# EAGLE library part SIL164TG64 (library SII164CTG64)
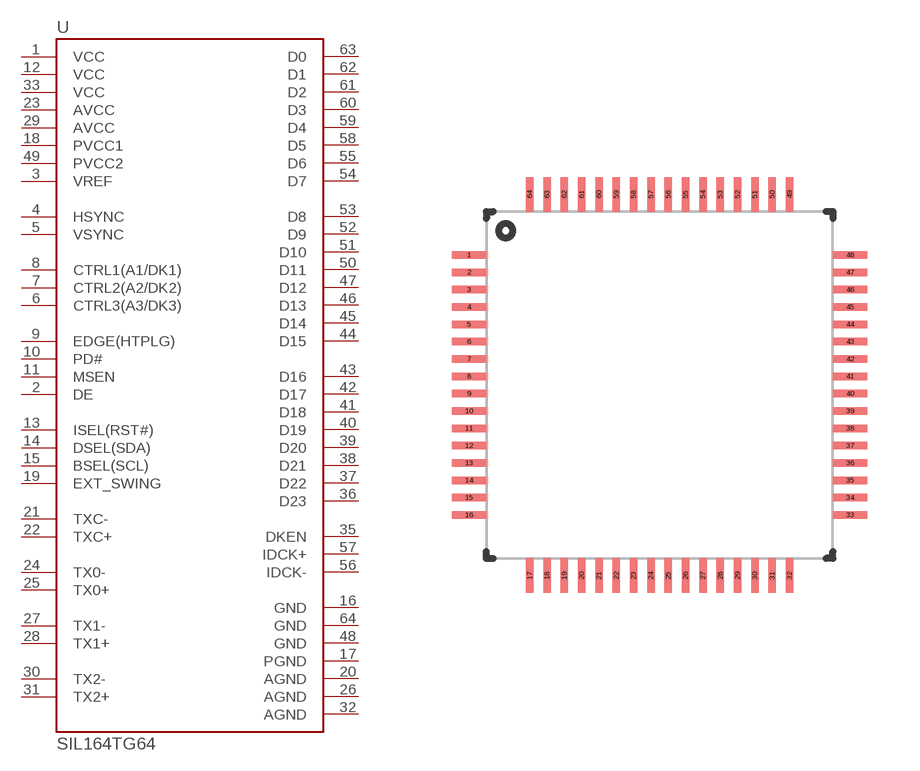
[diagram p0: symbol with the pads of TQFP64; footprint TQFP64]

Designator prefix -

## SIL164TG64  [TQFP64]
1  VCC  pwr
2  DE
3  VREF
4  HSYNC
5  VSYNC
6  CTRL3(A3/DK3)
7  CTRL2(A2/DK2)
8  CTRL1(A1/DK1)
9  EDGE(HTPLG)
10  PD#
11  MSEN
12  VCC
13  ISEL(RST#)
14  DSEL(SDA)
15  BSEL(SCL)
16  GND
17  PGND
18  PVCC1
19  EXT_SWING
20  AGND
21  TXC-
22  TXC+
23  AVCC
24  TX0-
25  TX0+
26  AGND
27  TX1-
28  TX1+
29  AVCC
30  TX2-
31  TX2+
32  AGND
33  VCC
35  DKEN  pwr
36  D23  pwr
37  D22  pwr
38  D21  pwr
39  D20  pwr
40  D19  pwr
41  D18  pwr
42  D17  pwr
43  D16  pwr
44  D15  pwr
45  D14  pwr
46  D13  pwr
47  D12  pwr
48  GND
49  PVCC2
50  D11  pwr
51  D10  pwr
52  D9  pwr
53  D8  pwr
54  D7  pwr
55  D6  pwr
56  IDCK-  pwr
57  IDCK+  pwr
58  D5  pwr
59  D4  pwr
60  D3  pwr
61  D2  pwr
62  D1  pwr
63  D0  pwr
64  GND

## Footprint TQFP64 (pad centres in mm)
smd 1 x 0.22: 1 -5.5,3.75; 2 -5.5,3.25; 3 -5.5,2.75; 4 -5.5,2.25; 5 -5.5,1.75; 6 -5.5,1.25; 7 -5.5,0.75; 8 -5.5,0.25; 9 -5.5,-0.25; 10 -5.5,-0.75; 11 -5.5,-1.25; 12 -5.5,-1.75; 13 -5.5,-2.25; 14 -5.5,-2.75; 15 -5.5,-3.25; 16 -5.5,-3.75; 33 5.5,-3.75; 34 5.5,-3.25; 35 5.5,-2.75; 36 5.5,-2.25; 37 5.5,-1.75; 38 5.5,-1.25; 39 5.5,-0.75; 40 5.5,-0.25; 41 5.5,0.25; 42 5.5,0.75; 43 5.5,1.25; 44 5.5,1.75; 45 5.5,2.25; 46 5.5,2.75; 47 5.5,3.25; 48 5.5,3.75
smd 0.22 x 1: 17 -3.75,-5.5; 18 -3.25,-5.5; 19 -2.75,-5.5; 20 -2.25,-5.5; 21 -1.75,-5.5; 22 -1.25,-5.5; 23 -0.75,-5.5; 24 -0.25,-5.5; 25 0.25,-5.5; 26 0.75,-5.5; 27 1.25,-5.5; 28 1.75,-5.5; 29 2.25,-5.5; 30 2.75,-5.5; 31 3.25,-5.5; 32 3.75,-5.5; 49 3.75,5.5; 50 3.25,5.5; 51 2.75,5.5; 52 2.25,5.5; 53 1.75,5.5; 54 1.25,5.5; 55 0.75,5.5; 56 0.25,5.5; 57 -0.25,5.5; 58 -0.75,5.5; 59 -1.25,5.5; 60 -1.75,5.5; 61 -2.25,5.5; 62 -2.75,5.5; 63 -3.25,5.5; 64 -3.75,5.5